# Altium schematic symbol library D24V25F5.SchLib: 1 symbol
Pins are listed as number, name and electrical type; pins without a type are passive.

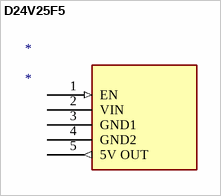
[diagram p0: symbol D24V25F5]

## D24V25F5
designator *
footprint D24V25F5
pins: 1 EN (in), 2 VIN (power), 3 GND1 (power), 4 GND2 (power), 5 5V OUT (out)